# Altium footprint library lib.PcbLib: 64 footprints (part 3 of 4)
Each footprint in its own frame and in the unit in brackets; x right, y up, seen from the top. Pads: shape width x height; smd on the part's side, far side on the other; paste and mask are expansions set on the pad; w line width, h text height; cw(c..) or ccw(c..) is an arc to the next point about the centre after c.
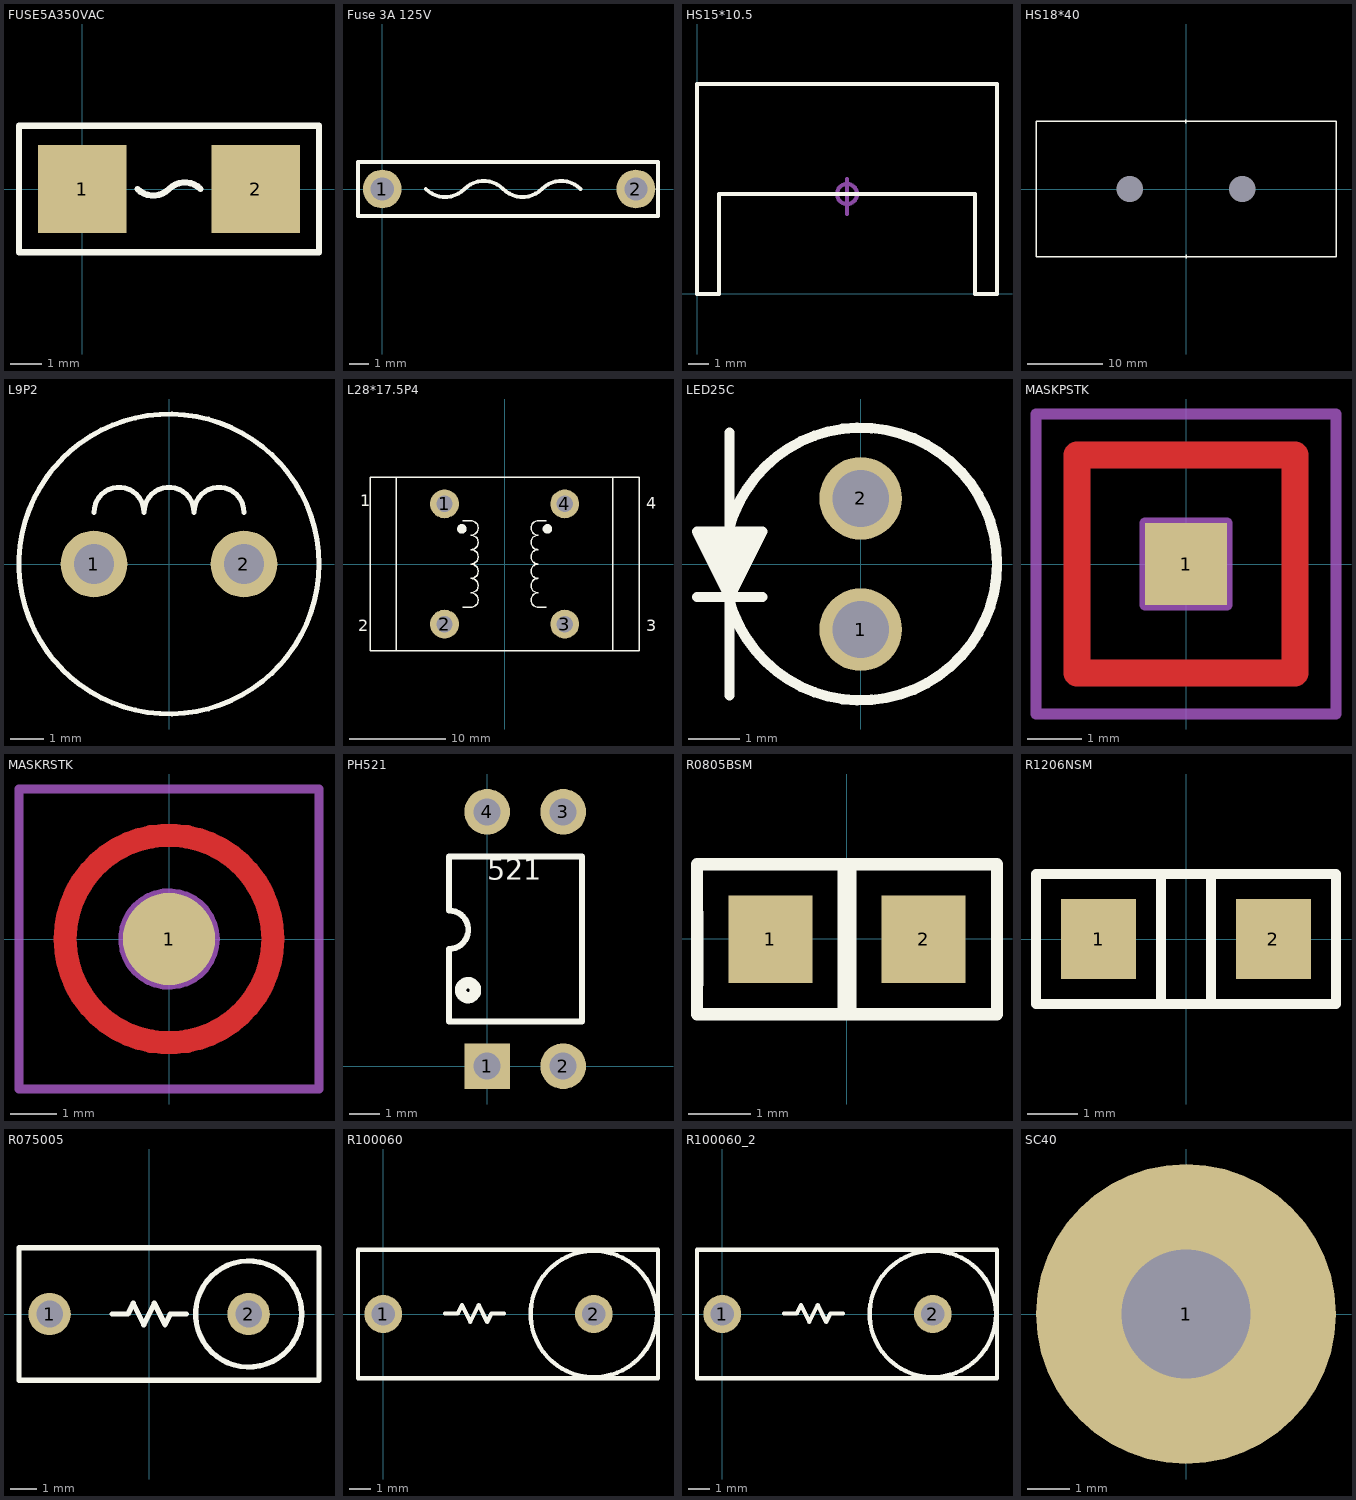
[diagram p2: the footprints below, top view; thin cyan lines are the x and y axes]

## FUSE5A350VAC [mm]
pads (2):
  rect 2.8x2.8 smd: 1(0,0) 2(5.5,0)
Top Overlay:
  lines w0.2: 1.75,0 ccw(c2.25,0.5) 2.75,0 cw(c3.25,-0.5) 3.75,0 ; -2,-2 -2,2 7.5,2 7.5,-2 -2,-2

## Fuse 3A 125V [mm]
pads (2):
  round 2 hole 1.2: 1(0,0) 2(13.11,0)
Top Overlay:
  lines w0.2: 2.25,0 ccw(c3.25,1) 4.25,0 cw(c5.25,-1) 6.25,0 ccw(c7.25,1) 8.25,0 cw(c9.25,-1) 10.25,0 ; -1.25,-1.4 14.25,-1.4 14.25,1.4 -1.25,1.4 -1.25,-1.4

## HS15*10.5 [mm]
height 65
Top Overlay:
  lines w0.2: 0,0 0,10.5 15,10.5 15,0 13.9,0 13.9,5 1.1,5 1.1,0 0,0
Mechanical 9:
  circle w0.2: c7.5,5 r0.5
  lines w0.2: 6.75,5 8.25,5 ; 7.5,4 7.5,5.75

## HS18*40 [mm]
height 60
pads (2):
  round 0 hole 3.5: 1(-7.5,0) 2(7.5,0)
Top Overlay:
  lines w0.2: 0,-9.25 0,-8.75 ; 0,8.75 0,9.25 ; -20,-9 20,-9 20,9 -20,9 -20,-9

## L9P2 [mm]
height 28.14
pads (2):
  round 2 hole 1.2: 1(-2.25,0) 2(2.25,0)
Top Overlay:
  circle w0.15: c0,0 r4.5
  lines w0.15: -2.25,1.55 cw(c-1.5,1.55) -0.75,1.55 cw(c0,1.55) 0.75,1.55 cw(c1.5,1.55) 2.25,1.55

## L28*17.5P4 [mm]
height 28.14
pads (4):
  round 3 hole 1.7: 1(-6.25,6.25) 2(-6.25,-6.25) 3(6.25,-6.25) 4(6.25,6.25)
Top Overlay:
  circle w0.5: c4.45,3.65 r0.25
  circle w0.5: c-4.45,3.65 r0.25
  lines w0.15: -11.25,-9 -11.25,9 ; -4.35,-4.5 -3.5,-4.5 ccw(c-3.5,-3.75) -3.5,-3 ccw(c-3.5,-2.25) -3.5,-1.5 ccw(c-3.5,-0.75) -3.5,0 ccw(c-3.5,0.75) -3.5,1.5 ccw(c-3.5,2.25) -3.5,3 ccw(c-3.5,3.75) -3.5,4.5 -4.35,4.5 ; 4.35,-4.5 3.5,-4.5 cw(c3.5,-3.75) 3.5,-3 cw(c3.5,-2.25) 3.5,-1.5 cw(c3.5,-0.75) 3.5,0 cw(c3.5,0.75) 3.5,1.5 cw(c3.5,2.25) 3.5,3 cw(c3.5,3.75) 3.5,4.5 4.35,4.5 ; 11.25,-9 11.25,9 ; -14,-9 -14,9 14,9 14,-9 -14,-9
  text "1" at -15,6 h1.2
  text "2" at -15.25,-7 h1.2
  text "3" at 14.75,-7 h1.2
  text "4" at 14.75,5.75 h1.2

## LED25C [mm]
height 28.14
pads (2):
  round 1.6 hole 1.1: 1(0,-1.27) 2(0,1.27)
Top Overlay:
  circle w0.2: c0,0 r2.64
  lines w0.2: -3.17,-0.64 -1.9,-0.64 ; -2.54,-2.54 -2.54,2.54 ; -2.54,0.63 -2.54,-0.64 ; -2.54,-0.64 -3.17,0.63 -1.9,0.63 -2.54,-0.64 ; -2.92,0.51 -2.16,0.51 -2.54,-0.38 -2.92,0.51 ; -2.67,0.38 -2.41,0.38 -2.54,-0.13 -2.67,0.38

## MASKPSTK [mm]
pads (1):
  rect 1.5x1.5 smd: 1(0,0)
Top Layer:
  lines w0.5: -2,-2 -2,2 2,2 2,-2 -2,-2
Top Solder:
  rectangle: -0.95,-0.95 0.95,0.95
Mechanical 9:
  lines w0.2: -2.75,-2.75 -2.75,2.75 2.75,2.75 2.75,-2.75 -2.75,-2.75 ; -0.75,-0.75 0.75,-0.75 0.75,0.75 -0.75,0.75 -0.75,-0.75

## MASKRSTK [mm]
pads (1):
  round 2 smd: 1(0,0)
Top Layer:
  circle w0.5: c0,0 r2.25
Top Solder:
  circle w1: c0,0 r0.7
Mechanical 9:
  circle w0.2: c0,0 r1
  lines w0.2: -3.25,-3.25 3.25,-3.25 3.25,3.25 -3.25,3.25 -3.25,-3.25

## PH521 [mil]
height 175.2
pads (4):
  rect 60x60 hole 35.43: 1(0,0)
  round 60 hole 35.43: 2(100,0) 3(100,334.65) 4(0,334.65)
Top Overlay:
  circle w14.96: c-25.2,100 r9.84
  lines w7.87: -50,59.06 124.8,59.06 124.8,275.59 -24.01,275.59 -50,275.59 -50,204.72 cw(c-50,179.53) -50,154.33 -50,59.06
  text "521" at 0,236.22 h47.24
3D body: height 175.2, standoff 0, extent -53.94,-34 134,334

## R0805BSM [mm]
height 0.5
pads (2):
  rect 1.35x1.4 smd: 1(-1.225,0) 2(1.225,0)
Top Overlay:
  region: -0.15,-1.2 0.15,-1.2 0.15,1.2 -0.15,1.2
  lines w0.2: -2.4,-1.2 0,-1.2 2.4,-1.2 2.4,-0.3 2.4,1.2 0,1.2 -2.4,1.2 -2.4,-0.3 -2.4,-1.2
3D body: height 0.5, standoff 0, extent -2.002,-0.827 2.002,0.827

## R1206NSM [mm]
height 0.6
pads (2):
  rect 1.5x1.6 smd: 1(-1.75,0) 2(1.75,0)
Top Overlay:
  lines w0.2: -0.5,-1.3 -2.5,-1.3 -3,-1.3 -3,0.5 -3,1.3 -2.55,1.3 -2.5,1.3 -0.5,1.3 ; -0.5,-1.3 -0.5,1.3 ; -0.5,-1.3 0.5,-1.3 ; -0.5,1.3 0.5,1.3 ; 0.5,-1.3 2.5,-1.3 3,-1.3 3,-0.8 3,0.5 3,1.3 2.8,1.3 2.5,1.3 0.5,1.3 ; 0.5,-1.3 0.5,1.3
Mechanical 9:
  text "TOP/BOT PAD" at -2.4,0.95 h0.15
3D body: height 0.6, standoff 0, extent -2.602,-0.902 2.602,0.902

## R075005 [mm]
height 16
pads (2):
  round 1.6 hole 1: 1(-3.75,0) 2(3.75,0)
Top Overlay:
  circle w0.2: c3.75,0 r2
  lines w0.2: -1.4,0 -0.8,0 -0.6,0.4 -0.2,-0.4 0.2,0.4 0.6,-0.4 0.8,0 1.4,0 ; -4.9,-2.5 -4.9,2.5 6.4,2.5 6.4,-2.5 -4.9,-2.5
3D body: height 16, standoff 0, extent -4.906,-2.5 6.406,2.5

## R100060 [mm]
height 9.33
pads (2):
  round 1.8 hole 1.1: 1(0,0) 2(10,0)
Top Overlay:
  circle w0.2: c10,0 r3
  lines w0.2: 2.935,0.03 3.535,0.03 3.735,0.43 4.135,-0.37 4.535,0.43 4.935,-0.37 5.135,0.03 5.735,0.03 ; -1.2,-3.05 -1.2,3.05 13.05,3.05 13.05,-3.05 -1.2,-3.05
3D body: height 16, standoff 0, extent -1.207,-3.05 13.057,3.05

## R100060_2 [mm]
pads (2):
  round 1.8 hole 1.1: 1(0,0) 2(10,0)
Top Overlay:
  circle w0.2: c10,0 r3
  lines w0.2: 2.935,0.03 3.535,0.03 3.735,0.43 4.135,-0.37 4.535,0.43 4.935,-0.37 5.135,0.03 5.735,0.03 ; -1.2,-3.05 13.05,-3.05 13.05,3.05 -1.2,3.05 -1.2,-3.05
3D body: height 16, standoff 0, extent -1.207,-3.05 13.057,3.05

## SC40 [mm]
height 2.62
pads (1):
  round 7 hole 3: 1(0,0)